# EAGLE library part MAX21000 (library bt)
MAX21000 MEMS Gyro The MAX21000 is a low power, low noise, 3-axis angular rate sensor that delivers unprecedented accuracy and sensitivity over temperature and time. It operates with a supply voltage as low as 1.71V for minimum power consumption. It includes a sensing element and an IC interface that provides the measured angular rate to the external world through a digital interface (I2C/SPI). Datasheet.pdf <http://datasheets.maximintegrated.com/en/ds/MAX21000.pdf>
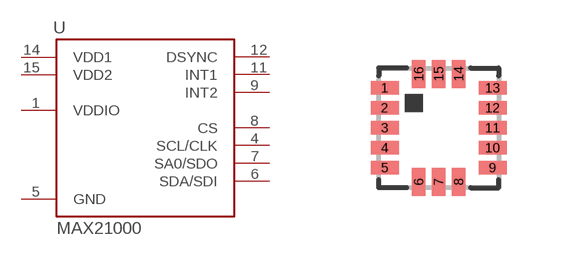
[diagram p12: symbol with the pads of 16LGA; footprint 16LGA]

Designator prefix U

## MAX21000  [16LGA]
1  VDDIO
4  SCL/CLK
5  GND
6  SDA/SDI
7  SA0/SDO
8  CS
9  INT2
11  INT1
12  DSYNC
14  VDD1
15  VDD2

## Footprint 16LGA (pad centres in mm)
smd 0.7 x 0.34: 1 -1.35,1; 2 -1.35,0.5; 3 -1.35,0; 4 -1.35,-0.5; 5 -1.35,-1; 9 1.35,-1; 10 1.35,-0.5; 11 1.35,0; 12 1.35,0.5; 13 1.35,1
smd 0.34 x 0.7: 6 -0.5,-1.35; 7 0,-1.35; 8 0.5,-1.35; 14 0.5,1.35; 15 0,1.35; 16 -0.5,1.35